# Altium schematic symbol library Semtech.SchLib: 1 symbol
Pins are listed as number, name and electrical type; pins without a type are passive.

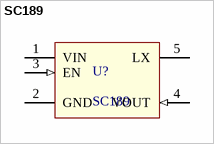
[diagram p0: symbol SC189]

## SC189
designator U?
Synchronous buck regulator
footprint SOT23-5AN (SOT23, 5-Leads, Body 2.9x1.6mm, Pitch 0.95mm, Lead Span 2.8mm, IPC Medium Density)
pins: 1 VIN (power), 2 GND (power), 3 EN (in), 4 VOUT (in), 5 LX